# Altium footprint library J 接插件.PcbLib: 458 footprints (part 6 of 29)
Each footprint in its own frame and in the unit in brackets; x right, y up, seen from the top. Pads: shape width x height; smd on the part's side, far side on the other; paste and mask are expansions set on the pad; w line width, h text height; cw(c..) or ccw(c..) is an arc to the next point about the centre after c.
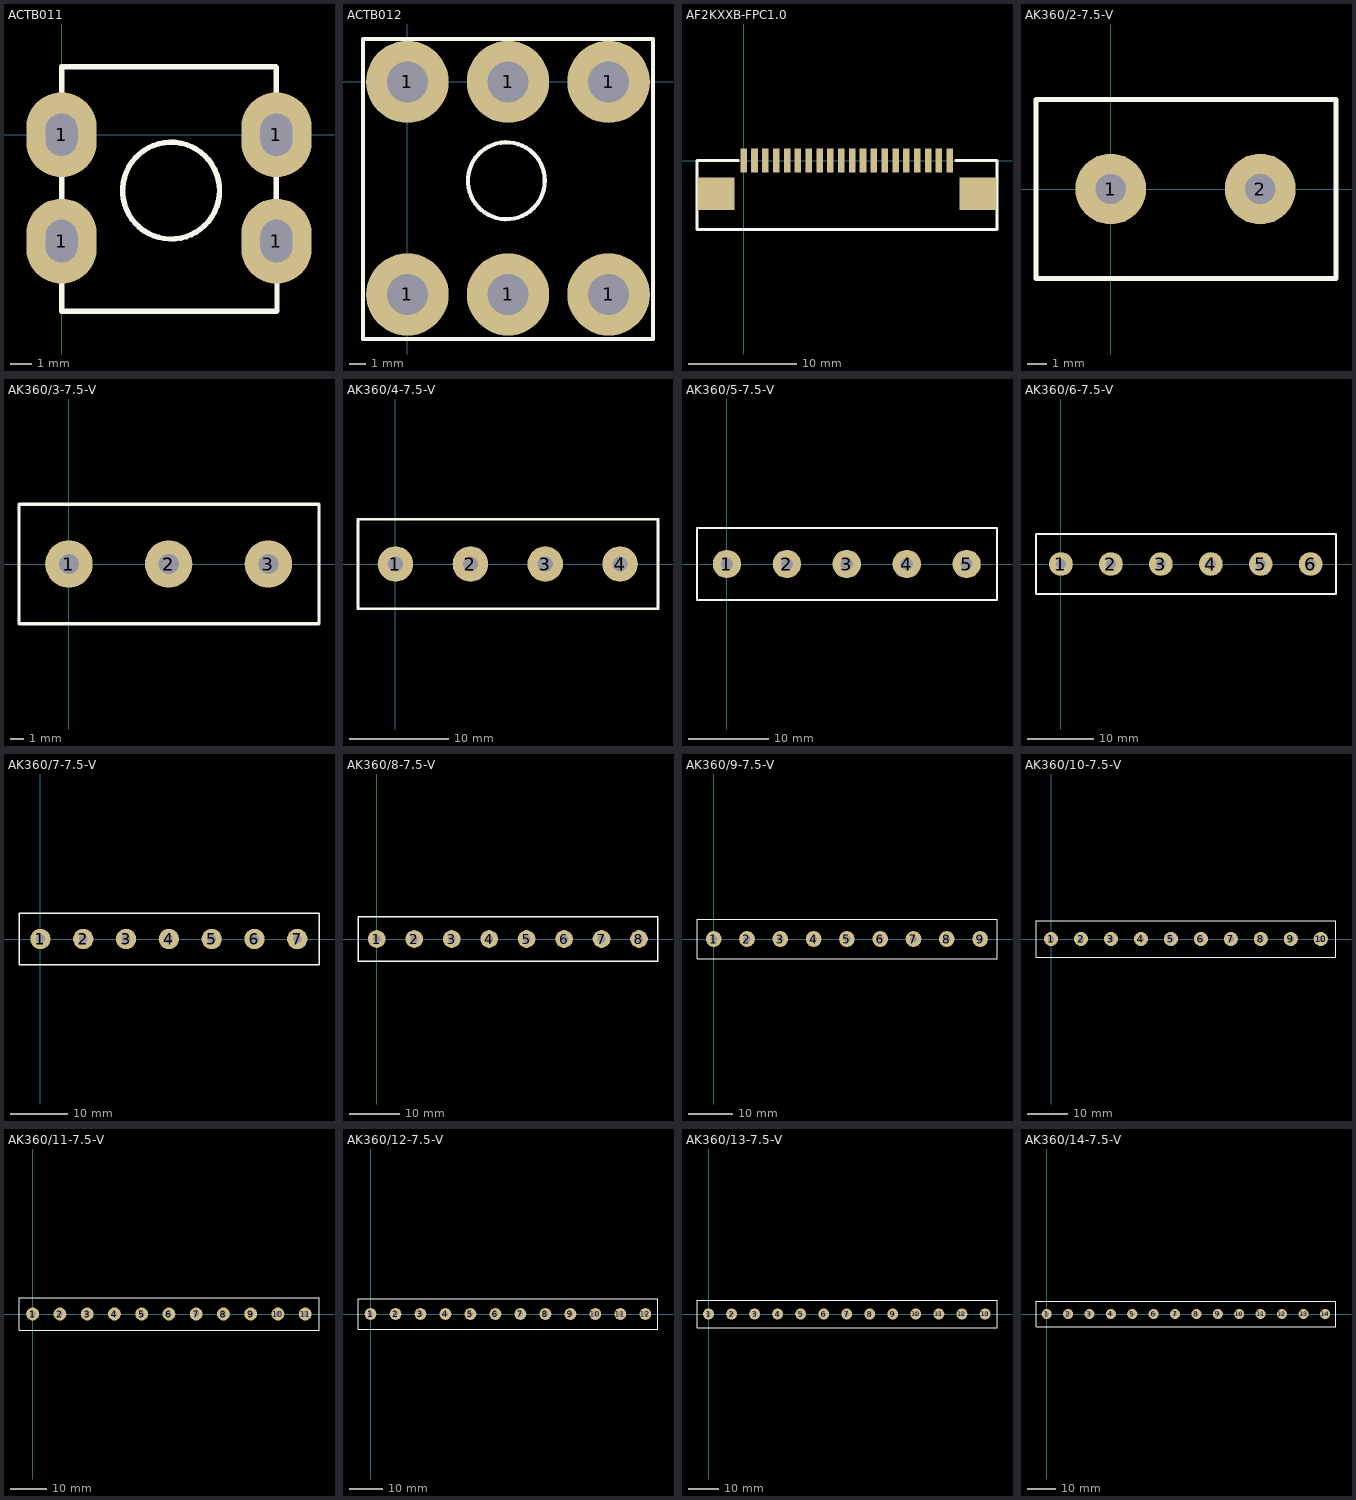
[diagram p5: the footprints below, top view; thin cyan lines are the x and y axes]

## ACTB011 [mm]
pads (4):
  oval 3.3x4 hole 1.5 slot 2 at 90 deg: 1(0,-5) 1(0,0) 1(10.1,-5) 1(10.1,0)
Top Overlay:
  circle w0.254: c5.148,-2.625 r2.277
  lines w0.254: 10.075,3.2 0,3.2 ; 10.1,3.175 10.1,0 10.1,-5 10.125,-5.025 10.125,-8.275 10.1,-8.3 6.8,-8.3 0,-8.3 0,-5 0,0 0,3.2 ; 0,3.2 0,3.2

## ACTB012 [mm]
pads (6):
  round 5 hole 2.5: 1(0,-12.9) 1(0,0) 1(6.1,-12.9) 1(6.1,0) 1(12.2,-12.9) 1(12.2,0)
Top Overlay:
  circle w0.254: c6,-6 r2.335
  lines w0.254: -2.7,-15.6 -2.7,2.6 14.9,2.6 14.9,-15.6 -2.7,-15.6

## AF2KXXB-FPC1.0 [mm]
height 1.75
pads (22):
  rect 0.6x2.2 smd: 1(0,0) 2(1,0) 3(2,0) 4(3,0) 5(4,0) 6(5,0) 7(6,0) 8(7,0) 9(8,0) 10(9,0) 11(10,0) 12(11,0) 13(12,0) 14(13,0) 15(14,0) 16(15,0) 17(16,0) 18(17,0) 19(18,0) 20(19,0)
  rect 3.4x3 smd: ""(-2.54,-3.048) ""(21.59,-3.048)
Top Overlay:
  lines w0.254: -0.508,0 -4.3,0 -4.3,-6.35 23.35,-6.35 23.35,0 19.558,0

## AK360/2-7.5-V [mil] "美卡诺 AKZ360 接触件 间距：7.5   2Pin"
height 531.5
pads (2):
  round 140 hole 60: 1(0,0) 2(295.28,0)
Top Overlay:
  lines w10: 442.91,-177.17 -147.64,-177.17 -147.64,177.17 442.91,177.17 ; 445,-177.17 445,177.17

## AK360/3-7.5-V [mil] "美卡诺 AKZ360 接触件 间距：7.5   3Pin"
height 531.5
pads (3):
  round 140 hole 60: 1(0,0) 2(295.28,0) 3(590.28,0)
Top Overlay:
  lines w10: 738.19,-177.17 -147.64,-177.17 -147.64,177.17 738.19,177.17 ; 740,-177.17 740,177.17

## AK360/4-7.5-V [mil] "美卡诺 AKZ360 接触件 间距：7.5   4Pin"
height 531.5
pads (4):
  round 140 hole 60: 1(0,0) 2(295.28,0) 3(590.28,0) 4(885.28,0)
Top Overlay:
  lines w10: -147.64,-177.17 1034.72,-177.17 1034.72,177.17 -147.64,177.17 -147.64,-177.17

## AK360/5-7.5-V [mil] "美卡诺 AKZ360 接触件 间距：7.5   5Pin"
height 531.5
pads (5):
  round 140 hole 60: 1(0,0) 2(295.28,0) 3(590.28,0) 4(885.28,0) 5(1180.28,0)
Top Overlay:
  lines w10: -147.64,-177.17 1330,-177.17 1330,177.17 -147.64,177.17 -147.64,-177.17

## AK360/6-7.5-V [mil] "美卡诺 AKZ360 接触件 间距：7.5   6Pin"
height 531.5
pads (6):
  round 140 hole 60: 1(0,0) 2(295.28,0) 3(590.28,0) 4(885.28,0) 5(1180.28,0) 6(1475.28,0)
Top Overlay:
  lines w10: -147.64,-177.17 1625,-177.17 1625,177.17 -147.64,177.17 -147.64,-177.17

## AK360/7-7.5-V [mil] "美卡诺 AKZ360 接触件 间距：7.5   7Pin"
height 531.5
pads (7):
  round 140 hole 60: 1(0,0) 2(295.28,0) 3(590.28,0) 4(885.28,0) 5(1180.28,0) 6(1475.28,0) 7(1770.28,0)
Top Overlay:
  lines w10: -147.64,-177.17 1920,-177.17 1920,177.17 -147.64,177.17 -147.64,-177.17

## AK360/8-7.5-V [mil] "美卡诺 AKZ360 接触件 间距：7.5   8Pin"
height 531.5
pads (8):
  round 140 hole 60: 1(0,0) 2(295.28,0) 3(590.28,0) 4(885.28,0) 5(1180.28,0) 6(1475.28,0) 7(1770.28,0) 8(2065.28,0)
Top Overlay:
  lines w10: -147.64,-177.17 -147.64,177.17 2215,177.17 2215,-177.17 -147.64,-177.17

## AK360/9-7.5-V [mil] "美卡诺 AKZ360 接触件 间距：7.5   9Pin"
height 531.5
pads (9):
  round 140 hole 60: 1(0,0) 2(295.28,0) 3(590.28,0) 4(885.28,0) 5(1180.28,0) 6(1475.28,0) 7(1770.28,0) 8(2065.28,0) 9(2360.28,0)
Top Overlay:
  lines w10: -147.64,-177.17 -147.64,177.17 2510,177.17 2510,-177.17 -147.64,-177.17

## AK360/10-7.5-V [mil] "美卡诺 AKZ360 接触件 间距：7.5   10Pin"
height 531.5
pads (10):
  round 140 hole 60: 1(0,0) 2(295.28,0) 3(590.28,0) 4(885.28,0) 5(1180.28,0) 6(1475.28,0) 7(1770.28,0) 8(2065.28,0) 9(2360.28,0) 10(2655.28,0)
Top Overlay:
  lines w10: -147.64,-177.17 -147.64,177.17 2805,177.17 2805,-177.17 -147.64,-177.17

## AK360/11-7.5-V [mil] "美卡诺 AKZ360 接触件 间距：7.5   11Pin"
height 531.5
pads (11):
  round 140 hole 60: 1(0,0) 2(295.28,0) 3(590.28,0) 4(885.28,0) 5(1180.28,0) 6(1475.28,0) 7(1770.28,0) 8(2065.28,0) 9(2360.28,0) 10(2655.28,0) 11(2950.28,0)
Top Overlay:
  lines w10: -147.64,-177.17 3100,-177.17 3100,177.17 -147.64,177.17 -147.64,-177.17

## AK360/12-7.5-V [mil] "美卡诺 AKZ360 接触件 间距：7.5   12Pin"
height 531.5
pads (12):
  round 140 hole 60: 1(0,0) 2(295.28,0) 3(590.28,0) 4(885.28,0) 5(1180.28,0) 6(1475.28,0) 7(1770.28,0) 8(2065.28,0) 9(2360.28,0) 10(2655.28,0) 11(2950.28,0) 12(3245.28,0)
Top Overlay:
  lines w10: -147.64,-177.17 -147.64,177.17 3395,177.17 3395,-177.17 -147.64,-177.17

## AK360/13-7.5-V [mil] "美卡诺 AKZ360 接触件 间距：7.5   13Pin"
height 531.5
pads (13):
  round 140 hole 60: 1(0,0) 2(295.28,0) 3(590.28,0) 4(885.28,0) 5(1180.28,0) 6(1475.28,0) 7(1770.28,0) 8(2065.28,0) 9(2360.28,0) 10(2655.28,0) 11(2950.28,0) 12(3245.28,0) 13(3543.03,0)
Top Overlay:
  lines w10: -147.64,-177.17 -147.64,177.17 3695.24,177.17 3695.24,-177.17 -147.64,-177.17

## AK360/14-7.5-V [mil] "美卡诺 AKZ360 接触件 间距：7.5   14Pin"
height 531.5
pads (14):
  round 140 hole 60: 1(0,0) 2(295.28,0) 3(590.28,0) 4(885.28,0) 5(1180.28,0) 6(1475.28,0) 7(1770.28,0) 8(2065.28,0) 9(2360.28,0) 10(2655.28,0) 11(2950.28,0) 12(3245.28,0) 13(3543.03,0) 14(3840.79,0)
Top Overlay:
  lines w10: -147.64,-177.17 3990.51,-177.17 3990.51,177.17 -147.64,177.17 -147.64,-177.17